# Altium integrated library Holtek Semiconductor 8-Bit OTP MCU.IntLib: 195 symbols (part 7 of 7)
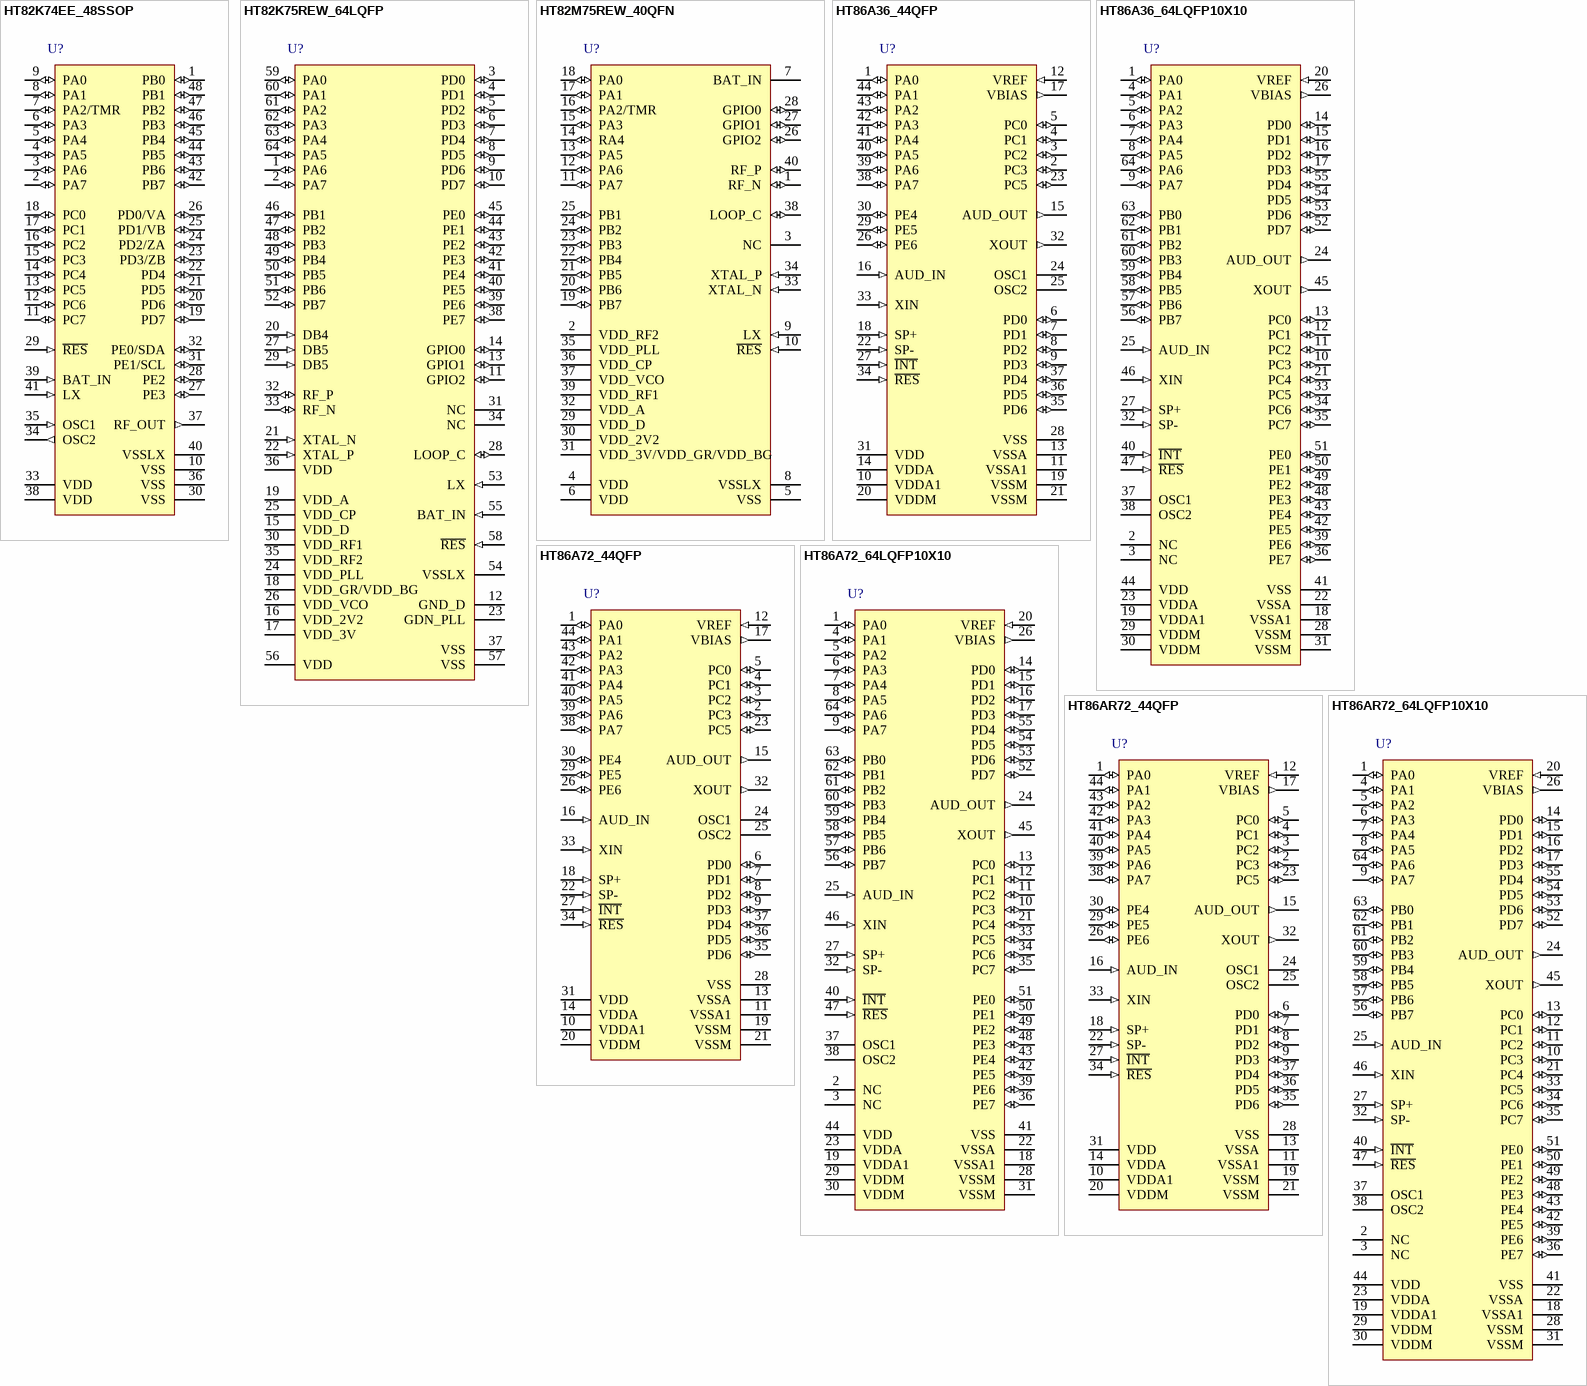
[diagram p18: symbols HT82K74EE_48SSOP to HT86AR72_64LQFP10X10]

## HT86A36_44QFP
designator U?
Voice & Music MCU, A/D Type Voice MCU, 2.0V-5.5V, 8Kx16 Program Memory, 384x8 Data Memory, 40 I/O, 96Kx8 Voice ROM, 36sec Voice Capacity, 12-bitx4 A/D, 12-bitx1 D/A, 44-pin QFP; I/O: 40; DatasheetVersion: rev1.1, Aug-2010; PackageVersion: 25/05/2010; PackageReference: 44QFP; PackageDescription: 44-Pin Quad Flat Pack, 10 x 10 mm Body, 0.8 mm Pitch; Series: A/D Type Voice MCU; Operating Voltage: 2.0V-5.5V; Program Memory: 8Kx16; Data Memory: 384x8; Code_IPC: QFP80P1320X1320-44; ComponentLink1Description: Manufacturer URL; ComponentLink1URL: http://www.holtek.com/; ComponentLink2Description: Datasheet; ComponentLink2URL: http://www.holtek.com/pdf/consumer/86axxv100.pdf; ComponentLink3Description: Package Specification; ComponentLink3URL: http://www.holtek.com/english/literature/package.pdf
footprint 44QFP_N (QFP, 44-Leads, Body 10x10mm, Pitch 0.8mm, IPC Medium Density)
footprint 44QFP_L (QFP, 44-Leads, Body 10x10mm, Pitch 0.8mm, IPC High Density)
footprint 44QFP_M (QFP, 44-Leads, Body 10x10mm, Pitch 0.8mm, IPC Low Density)
pins: 1 PA0 (io), 2 PC3 (io), 3 PC2 (io), 4 PC1 (io), 5 PC0 (io), 6 PD0 (io), 7 PD1 (io), 8 PD2 (io), 9 PD3 (io), 10 VDDA1 (power), 11 VSSA1 (power), 12 VREF (in), 13 VSSA (power), 14 VDDA (power), 15 AUD_OUT (out), 16 AUD_IN (in), 17 VBIAS (out), 18 SP+ (in), 19 VSSM (power), 20 VDDM (power), 21 VSSM (power), 22 SP- (in), 23 PC5 (io), 24 OSC1, 25 OSC2, 26 PE6 (io), 27 ~{INT} (in), 28 VSS (power), 29 PE5 (io), 30 PE4 (io), 31 VDD (power), 32 XOUT (out), 33 XIN (in), 34 ~{RES} (in), 35 PD6 (io), 36 PD5 (io), 37 PD4 (io), 38 PA7 (io), 39 PA6 (io), 40 PA5 (io), 41 PA4 (io), 42 PA3 (io), 43 PA2 (io), 44 PA1 (io)

## HT86A36_64LQFP10X10
designator U?
Voice & Music MCU, A/D Type Voice MCU, 2.0V-5.5V, 8Kx16 Program Memory, 384x8 Data Memory, 40 I/O, 96Kx8 Voice ROM, 36sec Voice Capacity, 12-bitx4 A/D, 12-bitx1 D/A, 64-pin LQFP(10x10mm); I/O: 40; DatasheetVersion: rev1.1, Aug-2010; PackageVersion: 25/05/2010; PackageReference: 64LQFP10X10; PackageDescription: 64-Pin Low Profile Quad Flat Pack, 10 x 10 mm Body, 0.5 mm Pitch; Series: A/D Type Voice MCU; Operating Voltage: 2.0V-5.5V; Program Memory: 8Kx16; Data Memory: 384x8; ComponentLink1Description: Manufacturer URL; ComponentLink1URL: http://www.holtek.com/; ComponentLink2Description: Datasheet; ComponentLink2URL: http://www.holtek.com/pdf/consumer/86axxv100.pdf; ComponentLink3Description: Package Specification; ComponentLink3URL: http://www.holtek.com/english/literature/package.pdf
footprint 64LQFP10X10_N (Thin QFP, 64-Leads, Body 10x10mm, Pitch 0.5mm, IPC Medium Density)
footprint 64LQFP10X10_L (Thin QFP, 64-Leads, Body 10x10mm, Pitch 0.5mm, IPC High Density)
footprint 64LQFP10X10_M (Thin QFP, 64-Leads, Body 10x10mm, Pitch 0.5mm, IPC Low Density)
pins: 1 PA0 (io), 2 NC, 3 NC, 4 PA1 (io), 5 PA2 (io), 6 PA3 (io), 7 PA4 (io), 8 PA5 (io), 9 PA7 (io), 10 PC3 (io), 11 PC2 (io), 12 PC1 (io), 13 PC0 (io), 14 PD0 (io), 15 PD1 (io), 16 PD2 (io), 17 PD3 (io), 18 VSSA1 (power), 19 VDDA1 (power), 20 VREF (in), 21 PC4 (io), 22 VSSA (power), 23 VDDA (power), 24 AUD_OUT (out), 25 AUD_IN (in), 26 VBIAS (out), 27 SP+ (in), 28 VSSM (power), 29 VDDM (power), 30 VDDM (power), 31 VSSM (power), 32 SP- (in), 33 PC5 (io), 34 PC6 (io), 35 PC7 (io), 36 PE7 (io), 37 OSC1, 38 OSC2, 39 PE6 (io), 40 ~{INT} (in), 41 VSS (power), 42 PE5 (io), 43 PE4 (io), 44 VDD (power), 45 XOUT (out), 46 XIN (in), 47 ~{RES} (in), 48 PE3 (io), 49 PE2 (io), 50 PE1 (io), 51 PE0 (io), 52 PD7 (io), 53 PD6 (io), 54 PD5 (io), 55 PD4 (io), 56 PB7 (io), 57 PB6 (io), 58 PB5 (io), 59 PB4 (io), 60 PB3 (io), 61 PB2 (io), 62 PB1 (io), 63 PB0 (io), 64 PA6 (io)

## HT86A72_44QFP
designator U?
Voice & Music MCU, A/D Type Voice MCU, 2.0V-5.5V, 8Kx16 Program Memory, 384x8 Data Memory, 40 I/O, 192Kx8 Voice ROM, 72sec Voice Capacity, 12-bitx4 A/D, 12-bitx1 D/A, 44-pin QFP; I/O: 40; DatasheetVersion: rev1.1, Aug-2010; PackageVersion: 25/05/2010; PackageReference: 44QFP; PackageDescription: 44-Pin Quad Flat Pack, 10 x 10 mm Body, 0.8 mm Pitch; Series: A/D Type Voice MCU; Operating Voltage: 2.0V-5.5V; Program Memory: 8Kx16; Data Memory: 384x8; Code_IPC: QFP80P1320X1320-44; ComponentLink1Description: Manufacturer URL; ComponentLink1URL: http://www.holtek.com/; ComponentLink2Description: Datasheet; ComponentLink2URL: http://www.holtek.com/pdf/consumer/86axxv100.pdf; ComponentLink3Description: Package Specification; ComponentLink3URL: http://www.holtek.com/english/literature/package.pdf
footprint 44QFP_N (QFP, 44-Leads, Body 10x10mm, Pitch 0.8mm, IPC Medium Density)
footprint 44QFP_L (QFP, 44-Leads, Body 10x10mm, Pitch 0.8mm, IPC High Density)
footprint 44QFP_M (QFP, 44-Leads, Body 10x10mm, Pitch 0.8mm, IPC Low Density)
pins: 1 PA0 (io), 2 PC3 (io), 3 PC2 (io), 4 PC1 (io), 5 PC0 (io), 6 PD0 (io), 7 PD1 (io), 8 PD2 (io), 9 PD3 (io), 10 VDDA1 (power), 11 VSSA1 (power), 12 VREF (in), 13 VSSA (power), 14 VDDA (power), 15 AUD_OUT (out), 16 AUD_IN (in), 17 VBIAS (out), 18 SP+ (in), 19 VSSM (power), 20 VDDM (power), 21 VSSM (power), 22 SP- (in), 23 PC5 (io), 24 OSC1, 25 OSC2, 26 PE6 (io), 27 ~{INT} (in), 28 VSS (power), 29 PE5 (io), 30 PE4 (io), 31 VDD (power), 32 XOUT (out), 33 XIN (in), 34 ~{RES} (in), 35 PD6 (io), 36 PD5 (io), 37 PD4 (io), 38 PA7 (io), 39 PA6 (io), 40 PA5 (io), 41 PA4 (io), 42 PA3 (io), 43 PA2 (io), 44 PA1 (io)

## HT86A72_64LQFP10X10
designator U?
Voice & Music MCU, A/D Type Voice MCU, 2.0V-5.5V, 8Kx16 Program Memory, 384x8 Data Memory, 40 I/O, 192Kx8 Voice ROM, 72sec Voice Capacity, 12-bitx4 A/D, 12-bitx1 D/A, 64-pin LQFP(10x10mm); I/O: 40; DatasheetVersion: rev1.1, Aug-2010; PackageVersion: 25/05/2010; PackageReference: 64LQFP10X10; PackageDescription: 64-Pin Low Profile Quad Flat Pack, 10 x 10 mm Body, 0.5 mm Pitch; Series: A/D Type Voice MCU; Operating Voltage: 2.0V-5.5V; Program Memory: 8Kx16; Data Memory: 384x8; ComponentLink1Description: Manufacturer URL; ComponentLink1URL: http://www.holtek.com/; ComponentLink2Description: Datasheet; ComponentLink2URL: http://www.holtek.com/pdf/consumer/86axxv100.pdf; ComponentLink3Description: Package Specification; ComponentLink3URL: http://www.holtek.com/english/literature/package.pdf
footprint 64LQFP10X10_N (Thin QFP, 64-Leads, Body 10x10mm, Pitch 0.5mm, IPC Medium Density)
footprint 64LQFP10X10_L (Thin QFP, 64-Leads, Body 10x10mm, Pitch 0.5mm, IPC High Density)
footprint 64LQFP10X10_M (Thin QFP, 64-Leads, Body 10x10mm, Pitch 0.5mm, IPC Low Density)
pins: 1 PA0 (io), 2 NC, 3 NC, 4 PA1 (io), 5 PA2 (io), 6 PA3 (io), 7 PA4 (io), 8 PA5 (io), 9 PA7 (io), 10 PC3 (io), 11 PC2 (io), 12 PC1 (io), 13 PC0 (io), 14 PD0 (io), 15 PD1 (io), 16 PD2 (io), 17 PD3 (io), 18 VSSA1 (power), 19 VDDA1 (power), 20 VREF (in), 21 PC4 (io), 22 VSSA (power), 23 VDDA (power), 24 AUD_OUT (out), 25 AUD_IN (in), 26 VBIAS (out), 27 SP+ (in), 28 VSSM (power), 29 VDDM (power), 30 VDDM (power), 31 VSSM (power), 32 SP- (in), 33 PC5 (io), 34 PC6 (io), 35 PC7 (io), 36 PE7 (io), 37 OSC1, 38 OSC2, 39 PE6 (io), 40 ~{INT} (in), 41 VSS (power), 42 PE5 (io), 43 PE4 (io), 44 VDD (power), 45 XOUT (out), 46 XIN (in), 47 ~{RES} (in), 48 PE3 (io), 49 PE2 (io), 50 PE1 (io), 51 PE0 (io), 52 PD7 (io), 53 PD6 (io), 54 PD5 (io), 55 PD4 (io), 56 PB7 (io), 57 PB6 (io), 58 PB5 (io), 59 PB4 (io), 60 PB3 (io), 61 PB2 (io), 62 PB1 (io), 63 PB0 (io), 64 PA6 (io)

## HT86AR72_44QFP
designator U?
Voice & Music MCU, A/D Type Voice MCU, 2.0V-5.5V, 8Kx16 Program Memory, 384x8 Data Memory, 40 I/O, 192Kx8 Voice ROM, 72sec Voice Capacity, 12-bitx4 A/D, 12-bitx1 D/A, 44-pin QFP; I/O: 40; DatasheetVersion: rev1.1, Aug-2010; PackageVersion: 25/05/2010; PackageReference: 44QFP; PackageDescription: 44-Pin Quad Flat Pack, 10 x 10 mm Body, 0.8 mm Pitch; Series: A/D Type Voice MCU; Operating Voltage: 2.0V-5.5V; Program Memory: 8Kx16; Data Memory: 384x8; Code_IPC: QFP80P1320X1320-44; ComponentLink1Description: Manufacturer URL; ComponentLink1URL: http://www.holtek.com/; ComponentLink2Description: Datasheet; ComponentLink2URL: http://www.holtek.com/pdf/consumer/86axxv100.pdf; ComponentLink3Description: Package Specification; ComponentLink3URL: http://www.holtek.com/english/literature/package.pdf
footprint 44QFP_N (QFP, 44-Leads, Body 10x10mm, Pitch 0.8mm, IPC Medium Density)
footprint 44QFP_L (QFP, 44-Leads, Body 10x10mm, Pitch 0.8mm, IPC High Density)
footprint 44QFP_M (QFP, 44-Leads, Body 10x10mm, Pitch 0.8mm, IPC Low Density)
pins: 1 PA0 (io), 2 PC3 (io), 3 PC2 (io), 4 PC1 (io), 5 PC0 (io), 6 PD0 (io), 7 PD1 (io), 8 PD2 (io), 9 PD3 (io), 10 VDDA1 (power), 11 VSSA1 (power), 12 VREF (in), 13 VSSA (power), 14 VDDA (power), 15 AUD_OUT (out), 16 AUD_IN (in), 17 VBIAS (out), 18 SP+ (in), 19 VSSM (power), 20 VDDM (power), 21 VSSM (power), 22 SP- (in), 23 PC5 (io), 24 OSC1, 25 OSC2, 26 PE6 (io), 27 ~{INT} (in), 28 VSS (power), 29 PE5 (io), 30 PE4 (io), 31 VDD (power), 32 XOUT (out), 33 XIN (in), 34 ~{RES} (in), 35 PD6 (io), 36 PD5 (io), 37 PD4 (io), 38 PA7 (io), 39 PA6 (io), 40 PA5 (io), 41 PA4 (io), 42 PA3 (io), 43 PA2 (io), 44 PA1 (io)

## HT86AR72_64LQFP10X10
designator U?
Voice & Music MCU, A/D Type Voice MCU, 2.0V-5.5V, 8Kx16 Program Memory, 384x8 Data Memory, 40 I/O, 192Kx8 Voice ROM, 72sec Voice Capacity, 12-bitx4 A/D, 12-bitx1 D/A, 64-pin LQFP(10x10mm); I/O: 40; DatasheetVersion: rev1.1, Aug-2010; PackageVersion: 25/05/2010; PackageReference: 64LQFP10X10; PackageDescription: 64-Pin Low Profile Quad Flat Pack, 10 x 10 mm Body, 0.5 mm Pitch; Series: A/D Type Voice MCU; Operating Voltage: 2.0V-5.5V; Program Memory: 8Kx16; Data Memory: 384x8; ComponentLink1Description: Manufacturer URL; ComponentLink1URL: http://www.holtek.com/; ComponentLink2Description: Datasheet; ComponentLink2URL: http://www.holtek.com/pdf/consumer/86axxv100.pdf; ComponentLink3Description: Package Specification; ComponentLink3URL: http://www.holtek.com/english/literature/package.pdf
footprint 64LQFP10X10_N (Thin QFP, 64-Leads, Body 10x10mm, Pitch 0.5mm, IPC Medium Density)
footprint 64LQFP10X10_L (Thin QFP, 64-Leads, Body 10x10mm, Pitch 0.5mm, IPC High Density)
footprint 64LQFP10X10_M (Thin QFP, 64-Leads, Body 10x10mm, Pitch 0.5mm, IPC Low Density)
pins: 1 PA0 (io), 2 NC, 3 NC, 4 PA1 (io), 5 PA2 (io), 6 PA3 (io), 7 PA4 (io), 8 PA5 (io), 9 PA7 (io), 10 PC3 (io), 11 PC2 (io), 12 PC1 (io), 13 PC0 (io), 14 PD0 (io), 15 PD1 (io), 16 PD2 (io), 17 PD3 (io), 18 VSSA1 (power), 19 VDDA1 (power), 20 VREF (in), 21 PC4 (io), 22 VSSA (power), 23 VDDA (power), 24 AUD_OUT (out), 25 AUD_IN (in), 26 VBIAS (out), 27 SP+ (in), 28 VSSM (power), 29 VDDM (power), 30 VDDM (power), 31 VSSM (power), 32 SP- (in), 33 PC5 (io), 34 PC6 (io), 35 PC7 (io), 36 PE7 (io), 37 OSC1, 38 OSC2, 39 PE6 (io), 40 ~{INT} (in), 41 VSS (power), 42 PE5 (io), 43 PE4 (io), 44 VDD (power), 45 XOUT (out), 46 XIN (in), 47 ~{RES} (in), 48 PE3 (io), 49 PE2 (io), 50 PE1 (io), 51 PE0 (io), 52 PD7 (io), 53 PD6 (io), 54 PD5 (io), 55 PD4 (io), 56 PB7 (io), 57 PB6 (io), 58 PB5 (io), 59 PB4 (io), 60 PB3 (io), 61 PB2 (io), 62 PB1 (io), 63 PB0 (io), 64 PA6 (io)